# EAGLE library part SQ3456EV (library lib_stankus)
SQ3456EV N-MOS Farnell #1869890
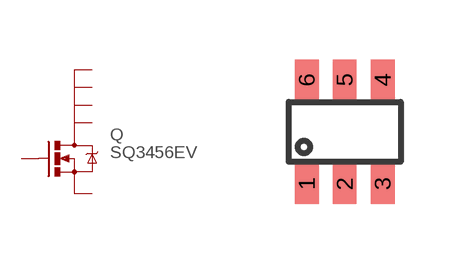
[diagram p64: symbol with the pads of TSOP6; footprint TSOP6]

Designator prefix Q

## SQ3456EV  [TSOP6]
1  D1  pas
2  D2  pas
3  G  pas
4  S  pas
5  D3  pas
6  D4  pas

## Footprint TSOP6 (pad centres in mm)
TSOP6
smd 0.6 x 1: 1 -0.95,-1.3; 2 0,-1.3; 3 0.95,-1.3; 4 0.95,1.3; 5 0,1.3; 6 -0.95,1.3